# EAGLE library part L4931 (library gumsense)
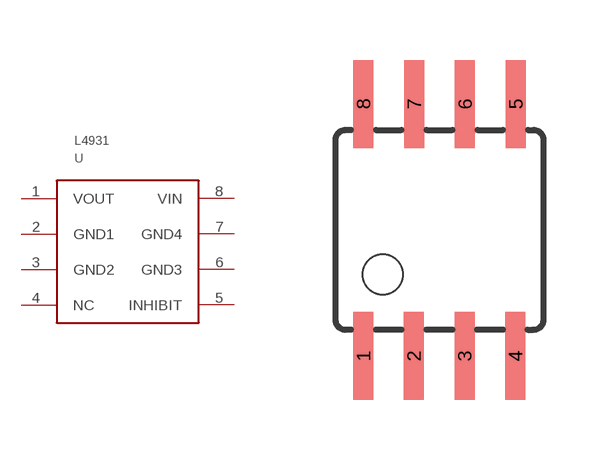
[diagram p7: symbol with the pads of SOIC8; footprint SOIC8]

Designator prefix -

## L4931  [SOIC8]
1  VOUT
2  GND1
3  GND2
4  NC
5  INHIBIT
6  GND3
7  GND4
8  VIN

## Footprint SOIC8 (pad centres in mm)
Wide Plastic Gull Wing Small Outline Package
smd 0.5 x 2.2: 1 -1.905,-3.154; 2 -0.645,-3.154; 3 0.625,-3.154; 4 1.895,-3.154; 5 1.905,3.154; 6 0.635,3.154; 7 -0.635,3.154; 8 -1.905,3.154